# EAGLE library part LMZ22003 (library NMR-relaxometry)
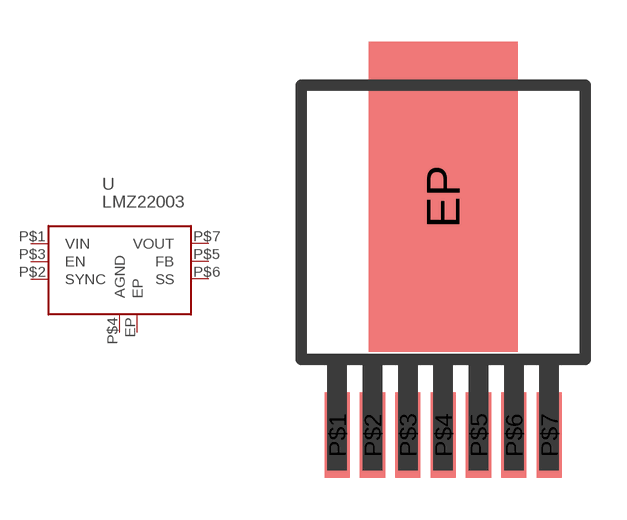
[diagram p7: symbol with the pads of TO-PMOD7; footprint TO-PMOD7]

Designator prefix -

## LMZ22003  [TO-PMOD7]
EP  EP  pwr
P$1  VIN  pwr
P$2  SYNC  in
P$3  EN  in
P$4  AGND  pwr
P$5  FB  pas
P$6  SS  pas
P$7  VOUT  pwr

## Footprint TO-PMOD7 (pad centres in mm)
smd 5.35 x 11.15: EP 0,8.575
smd 0.9 x 3.07: P$1 -3.81,0; P$2 -2.54,0; P$3 -1.27,0; P$4 0,0; P$5 1.27,0; P$6 2.54,0; P$7 3.81,0